# EAGLE library part CP210*? (library CP21xx)
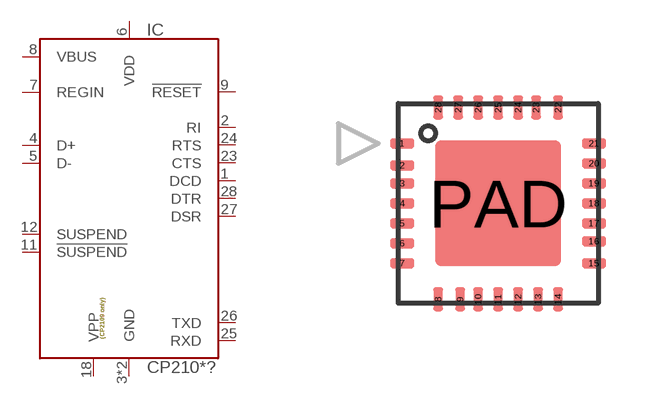
[diagram p1: symbol with the pads of QFN28-0.5-5X5; footprint QFN28-0.5-5X5]

Designator prefix IC

## CP2102-GM (MF: Silicon Labs; MPN: CP2102-GMR), CP2109-GM (MF: Silicon Labs; MPN: CP2109-A01-GM)  [QFN28-0.5-5X5]
1  DCD
2  RI
3  GND  pwr
4  D+
5  D-
6  VDD  pwr
7  REGIN  in
8  VBUS  in
9  !RESET  oc
11  !SUSPEND  out
12  SUSPEND  out
18  VPP  out
23  CTS
24  RTS
25  RXD  in
26  TXD  out
27  DSR
28  DTR
PAD  GND  pwr

## Footprint QFN28-0.5-5X5 (pad centres in mm)
smd 0.6 x 0.24: 1 -2.4,1.5; 2 -2.4,0.95; 3 -2.4,0.5; 4 -2.4,0; 5 -2.4,-0.5; 6 -2.4,-1; 7 -2.4,-1.5; 15 2.4,-1.5; 16 2.4,-0.95; 17 2.4,-0.5; 18 2.4,0; 19 2.4,0.5; 20 2.4,1; 21 2.4,1.5
smd 0.24 x 0.6: 8 -1.5,-2.4; 9 -0.95,-2.4; 10 -0.5,-2.4; 11 0,-2.4; 12 0.5,-2.4; 13 1,-2.4; 14 1.5,-2.4; 22 1.5,2.4; 23 0.95,2.4; 24 0.5,2.4; 25 0,2.4; 26 -0.5,2.4; 27 -1,2.4; 28 -1.5,2.4
smd 3.15 x 3.15: PAD 0,0